# EAGLE library part STM32PRIMER2-DAUGHTERBOARD (library stm32_primer)
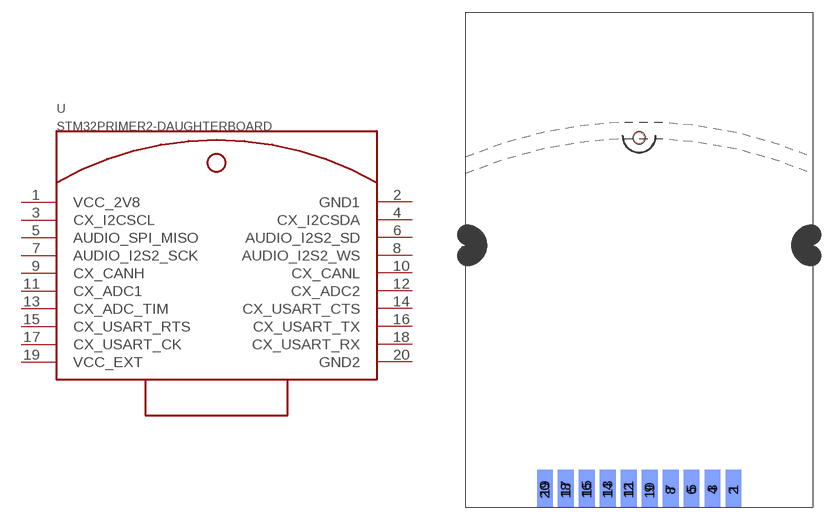
[diagram p0: symbol with the pads of STM32PRIMER2-DAUGHTERBOARD; footprint STM32PRIMER2-DAUGHTERBOARD]

Designator prefix -

## STM32PRIMER2-DAUGHTERBOARD  [STM32PRIMER2-DAUGHTERBOARD]
1  VCC_2V8
2  GND1
3  CX_I2CSCL
4  CX_I2CSDA
5  AUDIO_SPI_MISO
6  AUDIO_I2S2_SD
7  AUDIO_I2S2_SCK
8  AUDIO_I2S2_WS
9  CX_CANH
10  CX_CANL
11  CX_ADC1
12  CX_ADC2
13  CX_ADC_TIM
14  CX_USART_CTS
15  CX_USART_RTS
16  CX_USART_TX
17  CX_USART_CK
18  CX_USART_RX
19  VCC_EXT
20  GND2

## Footprint STM32PRIMER2-DAUGHTERBOARD (pad centres in mm)
smd 1.905 x 4.445 bottom: 1 11.43,2.286; 3 8.89,2.286; 5 6.35,2.286; 7 3.81,2.286; 9 1.27,2.286; 11 -1.27,2.286; 13 -3.81,2.286; 15 -6.35,2.286; 17 -8.89,2.286; 19 -11.43,2.286
smd 1.905 x 4.064: 2 11.43,2.032; 4 8.89,2.032; 6 6.35,2.032; 8 3.81,2.032; 10 1.27,2.032; 12 -1.27,2.032; 14 -3.81,2.032; 16 -6.35,2.032; 18 -8.89,2.032; 20 -11.43,2.032
hole 1.5 at 0,44.8